# Altium footprint library new_base_sensors.PcbLib: 12 footprints
Each footprint in its own frame and in the unit in brackets; x right, y up, seen from the top. Pads: shape width x height; smd on the part's side, far side on the other; paste and mask are expansions set on the pad; w line width, h text height; cw(c..) or ccw(c..) is an arc to the next point about the centre after c.
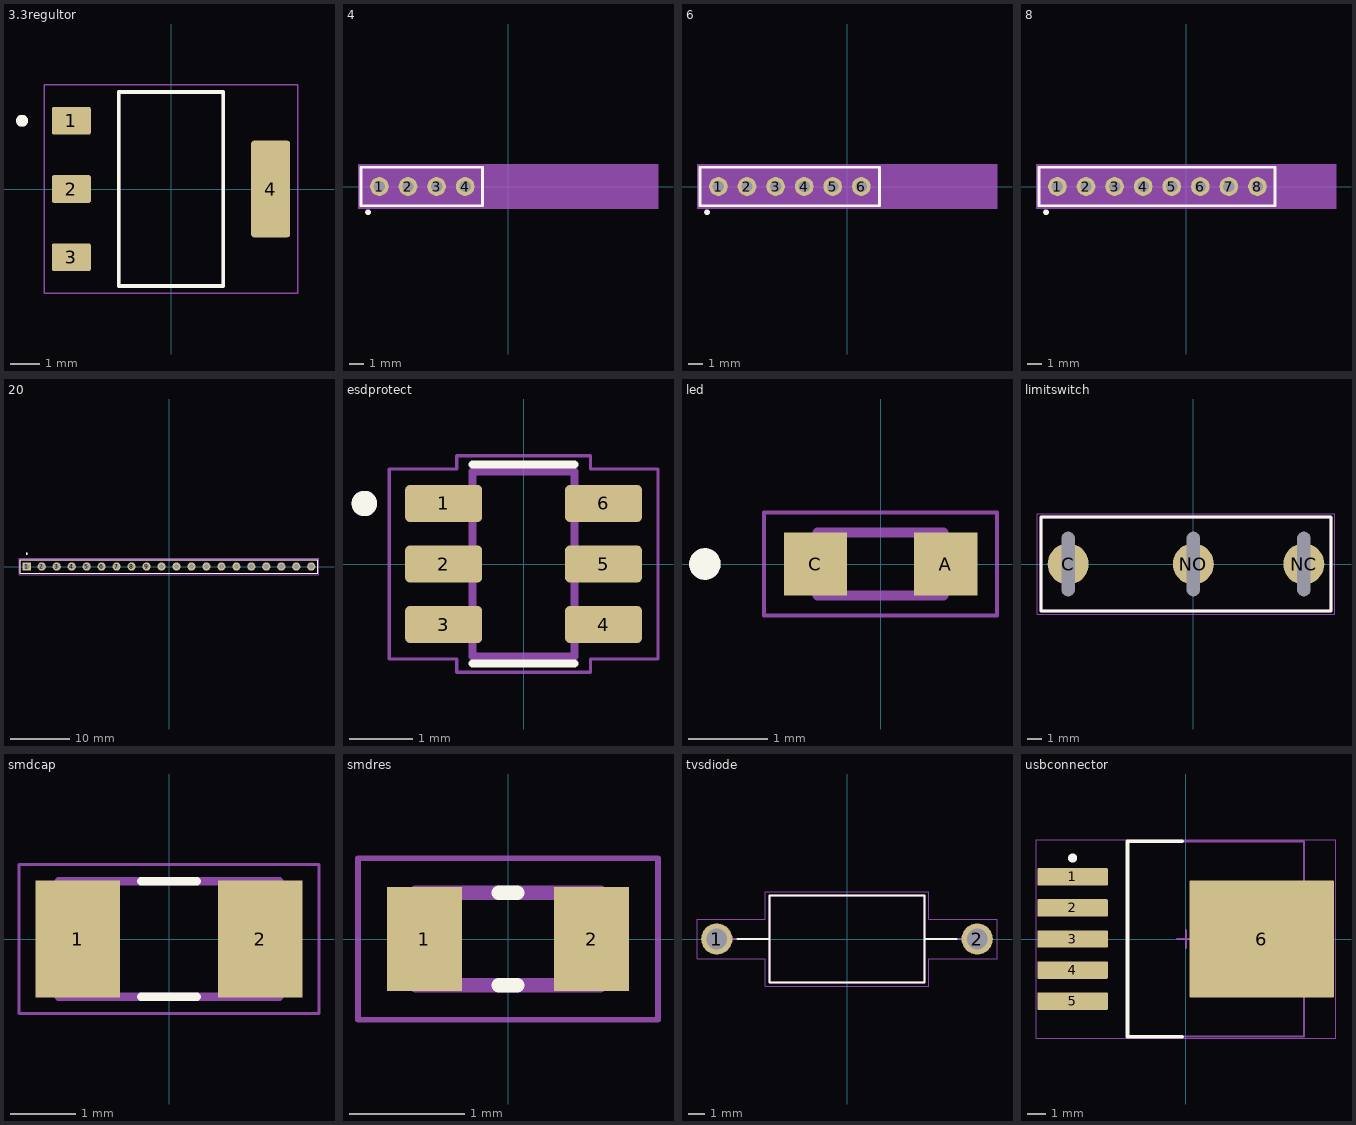
[diagram p0: the footprints below, top view; thin cyan lines are the x and y axes]

## 3.3regultor [mm]
height 1.8
pads (4):
  rrect15% 1.31x0.93 smd: 1(-3.345,2.29) 2(-3.345,0) 3(-3.345,-2.29)
  rrect15% 1.31x3.24 smd: 4(3.345,0)
Top Overlay:
  circle w0.2: c-5,2.29 r0.1
  lines w0.127: -1.753,-3.253 -1.753,3.253 1.753,3.253 1.753,-3.253 -1.753,-3.253
Mechanical 13:
  circle w0.2: c-5,2.29 r0.1
  lines w0.127: -1.753,-3.253 -1.753,3.253 1.753,3.253 1.753,-3.253 -1.753,-3.253
Mechanical 15:
  lines w0.05: -4.25,-3.502 4.25,-3.502 4.25,3.502 -4.25,3.502 -4.25,-3.502
3D body "step_temp.STEP": height 1.8, standoff 0, extent -3.251,-3.499 3.251,3.499

## 4 [mm]
pads (4):
  round 1.308 hole 0.8: 1(-9,0) 2(-7,0) 3(-5,0) 4(-3,0)
Top Overlay:
  circle w0.2: c-9.8,-1.8 r0.1
  lines w0.2: -10.3,-1.35 -10.3,1.35 -1.778,1.35 -1.778,-1.35 -10.3,-1.35
Mechanical 13:
  lines w0.1: -10.2,-1.25 -10.2,1.25 10.2,1.25 10.2,0.625 9.575,0 10.2,-0.625 10.2,-1.25 -10.2,-1.25
Mechanical 15:
  region: 10.5,-1.55 -10.5,-1.55 -10.5,1.55 10.5,1.55
3D body "step_temp.STEP": height 1.25, standoff -1.25, extent -10.25,-2.15 10.25,4.85

## 6 [mm]
pads (6):
  round 1.308 hole 0.8: 1(-9,0) 2(-7,0) 3(-5,0) 4(-3,0) 5(-1,0) 6(1,0)
Top Overlay:
  circle w0.2: c-9.8,-1.8 r0.1
  lines w0.2: -10.3,-1.35 2.286,-1.35 2.286,1.35 -10.3,1.35 -10.3,-1.35
Mechanical 13:
  lines w0.1: -10.2,-1.25 10.2,-1.25 10.2,1.25 -10.2,1.25 -10.2,-1.25
Mechanical 15:
  region: 10.5,-1.55 -10.5,-1.55 -10.5,1.55 10.5,1.55
3D body "step_temp.STEP": height 1.25, standoff -1.25, extent -10.25,-2.15 10.25,4.85

## 8 [mm]
pads (8):
  round 1.308 hole 0.8: 1(-9,0) 2(-7,0) 3(-5,0) 4(-3,0) 5(-1,0) 6(1,0) 7(3,0) 8(5,0)
Top Overlay:
  circle w0.2: c-9.8,-1.8 r0.1
  lines w0.2: -10.3,-1.35 6.223,-1.35 6.223,1.35 -10.3,1.35 -10.3,-1.35
Mechanical 13:
  lines w0.1: -10.2,-1.25 10.2,-1.25 10.2,1.25 -10.2,1.25 -10.2,-1.25
Mechanical 15:
  region: 10.5,-1.55 -10.5,-1.55 -10.5,1.55 10.5,1.55
3D body "step_temp.STEP": height 1.25, standoff -1.25, extent -10.25,-2.15 10.25,4.85

## 20 [mil]
pads (20):
  rect 55x55 / inner round 55 / far side rect 55x55 hole 35: 1(-950,0)
  round 55 hole 35: 2(-850,0) 3(-750,0) 4(-650,0) 5(-550,0) 6(-450,0) 7(-350,0) 8(-250,0) 9(-150,0) 10(-50,0) 11(50,0) 12(150,0) 13(250,0) 14(350,0) 15(450,0) 16(550,0) 17(650,0) 18(750,0) 19(850,0) 20(950,0)
Top Overlay:
  circle w7.87: c-950,85.43 r3.94
  lines w5: -992.01,-46.06 -992.01,46.06 992.01,46.06 992.01,-46.06 -992.01,-46.06
Mechanical 13:
  circle w7.87: c-950,85.43 r3.94
  lines w5: -992.01,-46.06 -992.01,46.06 992.01,46.06 992.01,-46.06 -992.01,-46.06
Mechanical 15:
  lines w1.97: -1001.85,-55.91 -1001.85,55.91 1001.85,55.91 1001.85,-55.91 -1001.85,-55.91
3D body "step_temp.STEP": height 46, standoff -46, extent -992,-318 992,215

## esdprotect [mm]
pads (6):
  rrect25% 1.21x0.58 smd: 1(-1.255,0.95) 2(-1.255,0) 3(-1.255,-0.95) 4(1.255,-0.95) 5(1.255,0) 6(1.255,0.95)
Top Overlay:
  circle w0.2: c-2.5,0.95 r0.1
  lines w0.127: -0.8,-1.56 0.8,-1.56 ; -0.8,1.56 0.8,1.56
Mechanical 13:
  circle w0.2: c-2.5,0.95 r0.1
  lines w0.127: -0.8,-1.45 -0.8,1.45 0.8,1.45 0.8,-1.45 -0.8,-1.45
Mechanical 15:
  lines w0.05: -2.11,-1.49 -2.11,1.49 -1.05,1.49 -1.05,1.7 1.05,1.7 1.05,1.49 2.11,1.49 2.11,-1.49 1.05,-1.49 1.05,-1.7 -1.05,-1.7 -1.05,-1.49 -2.11,-1.49
3D body "step_temp.STEP": height 1.45, standoff 0, extent -1.4,-1.45 1.4,1.45

## led [mm]
height 0.75
pads (2):
  rect 0.8x0.8 smd paste+0 mask+0.102: A(0.825,0) C(-0.825,0)
Top Overlay:
  circle w0.2: c-2.225,0 r0.1
Mechanical 13:
  circle w0.2: c-2.225,0 r0.1
  lines w0.127: -0.8,-0.4 0.8,-0.4 0.8,0.4 -0.8,0.4 -0.8,-0.4
Mechanical 15:
  lines w0.05: -1.475,-0.65 -1.475,0.65 1.475,0.65 1.475,-0.65 -1.475,-0.65
3D body "step_temp.STEP": height 0.75, standoff 0, extent -0.8,-0.4 0.8,0.4

## limitswitch [mm]
pads (3):
  round 2.8 hole 0.9 slot 4.4 at 90 deg: C(-8.55,0) NC(7.55,0) NO(0,0)
Top Overlay:
  lines w0.2: -10.4,-3.2 9.4,-3.2 9.4,3.2 -10.4,3.2 -10.4,-3.2
Mechanical 13:
  lines w0.2: -10.4,-3.2 9.4,-3.2 9.4,3.2 -10.4,3.2 -10.4,-3.2
Mechanical 15:
  circle w0.05: c0,0 r0.608
  lines w0.05: -1,0 1,0 ; 0,-1 0,1 ; -10.65,-3.45 9.65,-3.45 9.65,3.45 -10.65,3.45 -10.65,-3.45

## smdcap [mm]
pads (2):
  rect 1.3x1.8 smd: 1(-1.405,0) 2(1.405,0)
Top Overlay:
  lines w0.127: -0.43,-0.89 0.43,-0.89 ; -0.43,0.89 0.43,0.89
Mechanical 13:
  lines w0.127: -1.7,-0.89 -1.7,0.89 1.7,0.89 1.7,-0.89 -1.7,-0.89
Mechanical 15:
  lines w0.05: -2.308,-1.148 -2.308,1.148 2.308,1.148 2.308,-1.148 -2.308,-1.148

## smdres [mm]
height 0.45
pads (2):
  rect 0.65x0.9 smd: 1(-0.725,0) 2(0.725,0)
Top Overlay:
  lines w0.127: -0.08,-0.4 0.08,-0.4 ; -0.08,0.4 0.08,0.4
Mechanical 13:
  lines w0.127: -0.8,-0.4 -0.8,0.4 0.8,0.4 0.8,-0.4 -0.8,-0.4
Mechanical 15:
  lines w0.05: -1.3,-0.7 -1.3,0.7 1.3,0.7 1.3,-0.7 -1.3,-0.7
3D body "step_temp.STEP": height 0.45, standoff 0, extent -0.8,-0.4 0.8,0.4

## tvsdiode [mm]
height 7.3
pads (2):
  round 1.91 hole 1.27 mask+0.102: 1(-7.96,0) 2(7.96,0)
Top Overlay:
  lines w0.127: -6.68,0 -4.75,0 ; 6.68,0 4.75,0 ; -4.75,0 -4.75,-2.65 4.75,-2.65 4.75,0 ; -4.75,0 -4.75,2.65 4.75,2.65 4.75,0
Mechanical 13:
  lines w0.127: -7.005,0 -4.75,0 ; 7.005,0 4.75,0 ; -4.75,0 -4.75,-2.65 4.75,-2.65 4.75,0 ; -4.75,0 -4.75,2.65 4.75,2.65 4.75,0
Mechanical 15:
  lines w0.05: -9.17,-1.205 -9.17,1.205 -5,1.205 -5,2.9 5,2.9 5,1.205 9.17,1.205 9.17,-1.205 5,-1.205 5,-2.9 -5,-2.9 -5,-1.205 -9.17,-1.205
3D body "step_temp.STEP": height 2.7, standoff -2.7, extent 0,-2.7 62.5,2.7

## usbconnector [mm] "DPAK, 5-Leads, Body 10.65x9.65mm, Pitch 1.7mm, IPC High Density"
height 4.83
pads (6):
  rrect11% 3.85x0.95 smd: 1(-6.2,3.4) 2(-6.2,1.7) 3(-6.2,0) 4(-6.2,-1.7) 5(-6.2,-3.4)
  rrect2% 7.9x6.4 smd: 6(4.15,0)
Top Overlay:
  circle w0.25: c-6.2,4.425 r0.125
  lines w0.2: -0.2,-5.35 -3.2,-5.35 -3.2,5.35 -0.2,5.35
Mechanical 1:
  text ".Designator" at -1.905,-0.508 h1.3
Top Courtyard:
  lines w0.05: -8.2,-5.425 -8.2,5.425 8.2,5.425 8.2,-5.425 -8.2,-5.425
  lines w0.1: -0.5,0 0.5,0 ; 0,-0.5 0,0.5
Mechanical 13:
  lines w0.1: -3.2,-5.325 -3.2,5.325 6.45,5.325 6.45,-5.325 -3.2,-5.325
3D body: height 4.83, standoff 0, extent -3.2,-5.325 6.45,5.325